# Altium footprint library 3D Components_v1.PcbLib: 30 footprints (part 2 of 2)
Each footprint in its own frame and in the unit in brackets; x right, y up, seen from the top. Pads: shape width x height; smd on the part's side, far side on the other; paste and mask are expansions set on the pad; w line width, h text height; cw(c..) or ccw(c..) is an arc to the next point about the centre after c.
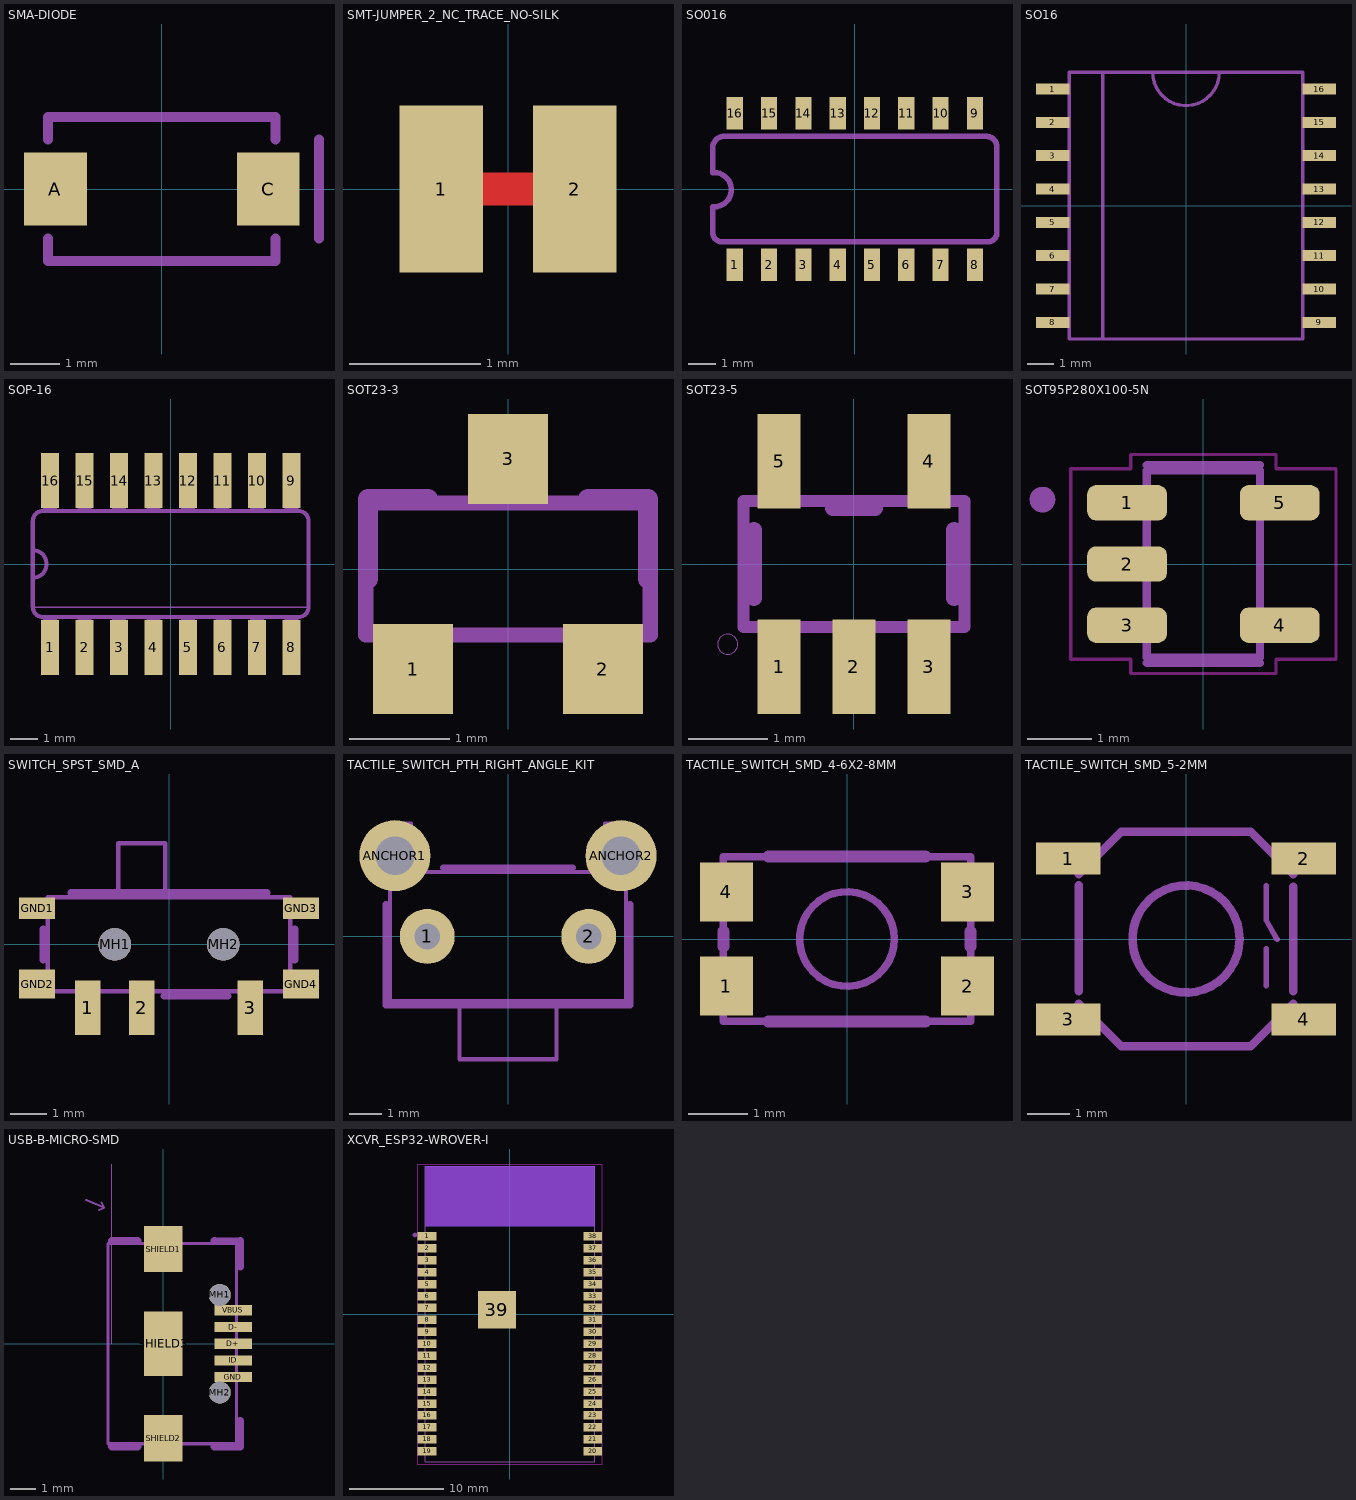
[diagram p1: the footprints below, top view; thin cyan lines are the x and y axes]

## SMA-DIODE [mm]
pads (2):
  rect 1.27x1.47 smd: A(-2.15,0) C(2.15,0)
Mechanical 7:
  lines w0.203: -2.3,-1 -2.3,-1.45 2.3,-1.45 2.3,-1 ; -2.3,1 -2.3,1.45 2.3,1.45 2.3,1 ; 3.175,-1 3.175,1

## SMT-JUMPER_2_NC_TRACE_NO-SILK [mil]
pads (2):
  rect 25x50 smd paste+0: 1(-20,0) 2(20,0)
Top Layer:
  lines w10: -20,0 20,0
Top Solder:
  region: -7.5,5 7.5,5 7.5,-5 -7.5,-5

## SO016 [mm]
pads (16):
  rect 0.6x1.2 smd: 1(-4.445,-2.8) 2(-3.175,-2.8) 3(-1.905,-2.8) 4(-0.635,-2.8) 5(0.635,-2.8) 6(1.905,-2.8) 7(3.175,-2.8) 8(4.445,-2.8) 9(4.445,2.8) 10(3.175,2.8) 11(1.905,2.8) 12(0.635,2.8) 13(-0.635,2.8) 14(-1.905,2.8) 15(-3.175,2.8) 16(-4.445,2.8)
Mechanical 3:
  region: -4.699,-3.302 -4.699,-2.273 -4.191,-2.273 -4.191,-3.302
  region: -3.429,-3.302 -3.429,-2.273 -2.921,-2.273 -2.921,-3.302
  region: -2.159,-3.302 -2.159,-2.273 -1.651,-2.273 -1.651,-3.302
  region: -0.889,-3.302 -0.889,-2.273 -0.381,-2.273 -0.381,-3.302
  region: 0.381,-3.302 0.381,-2.273 0.889,-2.273 0.889,-3.302
  region: 1.651,-3.302 1.651,-2.273 2.159,-2.273 2.159,-3.302
  region: 2.921,-3.302 2.921,-2.273 3.429,-2.273 3.429,-3.302
  region: 4.191,-3.302 4.191,-2.273 4.699,-2.273 4.699,-3.302
  region: -4.699,2.286 -4.699,3.365 -4.191,3.365 -4.191,2.286
  region: -3.429,2.286 -3.429,3.302 -2.921,3.302 -2.921,2.286
  region: -2.159,2.286 -2.159,3.302 -1.651,3.302 -1.651,2.286
  region: -0.889,2.286 -0.889,3.302 -0.381,3.302 -0.381,2.286
  region: 0.381,2.286 0.381,3.302 0.889,3.302 0.889,2.286
  region: 1.651,2.286 1.651,3.302 2.159,3.302 2.159,2.286
  region: 2.921,2.286 2.921,3.302 3.429,3.302 3.429,2.286
  region: 4.191,2.286 4.191,3.302 4.699,3.302 4.699,2.286
Mechanical 7:
  lines w0.203: -5.258,-0.66 -5.258,-1.665 ccw(c-4.927,-1.616) -4.877,-1.946 4.977,-1.946 ccw(c4.927,-1.615) 5.258,-1.565 5.258,1.565 ccw(c4.877,1.566) 4.877,1.946 -4.877,1.946 ccw(c-4.827,1.515) -5.258,1.465 ; -5.258,0.61 -5.258,1.453 ; -5.207,-0.66 ccw(c-5.207,-0.025) -5.207,0.61

## SO16 [mil] "PCF8574"
pads (16):
  rect 50x16.5 smd: 1(-200,175) 2(-200,125) 3(-200,75) 4(-200,25) 5(-200,-25) 6(-200,-75) 7(-200,-125) 8(-200,-175) 9(200,-175) 10(200,-125) 11(200,-75) 12(200,-25) 13(200,25) 14(200,75) 15(200,125) 16(200,175)
Mechanical 7:
  lines w5: -125,-200 175,-200 175,200 50,200 ; -125,-200 -175,-200 -175,200 -125,200 ; -125,-200 -125,200 ; -125,200 -50,200 ; -50,200 ccw(c0,200) 50,200 ; -50,200 50,200

## SOP-16 [mil] "PAM8403"
pads (16):
  rect 26x80 smd: 1(-175,-121) 2(-125,-121) 3(-75,-121) 4(-25,-121) 5(25,-121) 6(75,-121) 7(125,-121) 8(175,-121) 9(175,121) 10(125,121) 11(75,121) 12(25,121) 13(-25,121) 14(-75,121) 15(-125,121) 16(-175,121)
Mechanical 3:
  region: -35,77 -35,122 -15,122 -15,77
  region: -185,-122 -185,-77 -165,-77 -165,-122
  region: -135,-122 -135,-77 -115,-77 -115,-122
  region: -85,-121 -85,-76 -65,-76 -65,-121
  region: -35,-122 -35,-77 -15,-77 -15,-122
  region: -85,77 -85,122 -65,122 -65,77
  region: -135,77 -135,122 -115,122 -115,77
  region: -185,77 -185,122 -165,122 -165,77
  region: 15,-122 15,-77 35,-77 35,-122
  region: 65,-122 65,-77 85,-77 85,-122
  region: 115,-122 115,-77 135,-77 135,-122
  region: 165,-122 165,-77 185,-77 185,-122
  region: 15,77 15,122 35,122 35,77
  region: 65,77 65,122 85,122 85,77
  region: 115,77 115,122 135,122 135,77
  region: 165,77 165,122 185,122 185,77
Mechanical 7:
  lines w2: -200,-63 200,-63
  lines w6: -200,-20 ccw(c-200,0) -200,20 ; -200,-20 -200,20 ; -200,-20 -200,-62 ccw(c-185,-62) -185,-77 185,-77 ccw(c185,-62) 200,-62 200,62 ccw(c185,62) 185,77 -185,77 ccw(c-185,62) -200,62 -200,20

## SOT23-3 [mil]
pads (3):
  rect 31.5x35.43 smd: 1(-37.4,-39.37) 2(37.4,-39.37) 3(0,43.31)
Mechanical 3:
  lines w6: -56,-26 -56,26 56,26 56,-26 -56,-26
Mechanical 7:
  lines w8: -55.12,-3.94 -55.12,27.56 -31.5,27.56 ; 31.5,27.56 55.12,27.56 55.12,-3.94

## SOT23-5 [mm]
pads (5):
  rect 0.55x1.2 smd: 1(-0.95,-1.3) 2(0,-1.3) 3(0.95,-1.3) 4(0.95,1.3) 5(-0.95,1.3)
Mechanical 3:
  region: -1.2,-1.5 -1.2,-0.85 -0.7,-0.85 -0.7,-1.5
  region: -0.25,-1.5 -0.25,-0.85 0.25,-0.85 0.25,-1.5
  region: 0.7,-1.5 0.7,-0.85 1.2,-0.85 1.2,-1.5
  region: 0.7,0.85 0.7,1.5 1.2,1.5 1.2,0.85
  region: -1.2,0.85 -1.2,1.5 -0.7,1.5 -0.7,0.85
  lines w0.152: -1.4,-0.8 1.4,-0.8 1.4,0.8 -1.4,0.8 -1.4,-0.8
Mechanical 7:
  circle w0: c-1.6,-1.016 r0.127
  lines w0.203: -1.27,-0.43 -1.27,0.43 ; -0.268,0.709 0.268,0.709 ; 1.27,-0.43 1.27,0.43

## SOT95P280X100-5N [mm]
pads (5):
  rrect50% 1.24x0.55 smd: 1(-1.185,0.95) 2(-1.185,0) 3(-1.185,-0.95) 4(1.185,-0.95) 5(1.185,0.95)
Top Layer keep-out:
  lines w0.05: -2.06,-1.48 -2.06,1.48 -1.13,1.48 -1.13,1.7 1.13,1.7 1.13,1.48 2.06,1.48 2.06,-1.48 1.13,-1.48 1.13,-1.7 -1.13,-1.7 -1.13,-1.48 -2.06,-1.48
Mechanical 3:
  circle w0.2: c-2.5,1 r0.1
  lines w0.127: -0.88,-1.45 -0.88,1.45 0.88,1.45 0.88,-1.45 -0.88,-1.45
Mechanical 7:
  circle w0.2: c-2.5,1 r0.1
  lines w0.127: -0.88,-1.539 0.88,-1.539 ; -0.88,1.539 0.88,1.539

## SWITCH_SPST_SMD_A [mm]
pads (9):
  rect 0.7x1.5 smd: 1(-2.25,-1.75) 2(-0.75,-1.75) 3(2.25,-1.75)
  rect 1x0.6 smd: GND1(-3.65,1) GND3(3.65,1)
  rect 1x0.8 smd: GND2(-3.65,-1.1) GND4(3.65,-1.1)
  round 0.9 hole 0.9 unplated: MH1(-1.5,0) MH2(1.5,0)
Mechanical 3:
  lines w0.127: -1.4,1.3 -1.4,2.8 -0.1,2.8 -0.1,1.3 ; -1.4,1.3 -3.35,1.3 -3.35,-1.3 3.35,-1.3 3.35,1.3 -0.1,1.3 ; -1.4,1.3 -0.1,1.3
Mechanical 7:
  lines w0.203: -3.477,-0.427 -3.477,0.427 ; -2.7,1.427 2.7,1.427 ; -0.127,-1.427 1.627,-1.427 ; 3.477,-0.427 3.477,0.427

## TACTILE_SWITCH_PTH_RIGHT_ANGLE_KIT [mil]
pads (4):
  round 66.93 hole 31.5: 1(-98.43,0) 2(98.43,0)
  round 86.61 hole 47.24: ANCHOR1(-137.8,98.43) ANCHOR2(137.8,98.43)
Top Solder:
  circle w0: c98.43,0 r17.5
  circle w0: c-98.43,0 r17.5
  circle w0: c-137.8,98.43 r25
  circle w0: c137.8,98.43 r25
Bottom Solder:
  circle w0: c-137.8,98.43 r45
  circle w0: c98.43,0 r35
  circle w0: c-98.43,0 r35
  circle w0: c137.8,98.43 r45
Mechanical 3:
  lines w5: -59.06,-78.74 -143.7,-78.74 -143.7,137.8 -118.11,137.8 -118.11,78.74 118.11,78.74 118.11,137.8 143.7,137.8 143.7,-78.74 59.06,-78.74 ; -59.06,-78.74 59.06,-78.74 ; -59.06,-78.74 -59.06,-149.61 59.06,-149.61 59.06,-78.74
Mechanical 7:
  lines w8: -148.7,39.37 -148.7,-83.74 148.7,-83.74 148.7,39.37 ; -78.74,83.74 78.74,83.74

## TACTILE_SWITCH_SMD_4-6X2-8MM [mm]
pads (4):
  rect 0.9x1 smd: 1(-2.05,-0.8) 2(2.05,-0.8) 3(2.05,0.8) 4(-2.05,0.8)
Mechanical 3:
  region: 2.3,1.1 2.3,0.5 2.1,0.5 2.1,1.1
  region: 2.3,-0.5 2.3,-1.1 2.1,-1.1 2.1,-0.5
  region: -2.3,-1.1 -2.3,-0.5 -2.1,-0.5 -2.1,-1.1
  region: -2.3,0.5 -2.3,1.1 -2.1,1.1 -2.1,0.5
  lines w0.127: -2.1,-1.4 2.1,-1.4 2.1,1.4 -2.1,1.4 -2.1,-1.4
Mechanical 7:
  circle w0.127: c0,0 r0.805
  lines w0.203: -2.1,-0.13 -2.1,0.13 ; -1.338,-1.4 1.338,-1.4 ; -1.338,1.4 1.338,1.4 ; 2.1,-0.13 2.1,0.13

## TACTILE_SWITCH_SMD_5-2MM [mil]
pads (4):
  rect 60x30 smd: 1(-110,75) 2(110,75) 3(-110,-75) 4(110,-75)
Mechanical 3:
  lines w5: 75,-43.9 75,-9.06 ; 75,50 75,17.52 85.04,-0.39
  lines w8: -100,-60.63 -60.63,-100 ; -100,60.63 -60.63,100 ; 60.63,-100 100,-60.63 ; 60.63,100 100,60.63
Mechanical 7:
  circle w8: c0,0 r50
  lines w8: -100,-48.82 -100,50 ; -60.63,-100 60.63,-100 ; -60.63,100 60.63,100 ; 100,-48.82 100,48.82

## USB-B-MICRO-SMD [mm]
pads (10):
  rect 1.45x0.4 smd: D+(2.725,0) D-(2.725,0.65) GND(2.725,-1.3) ID(2.725,-0.65) VBUS(2.725,1.3)
  round 0.85 hole 0.85 unplated: MH1(2.2,1.9) MH2(2.2,-1.9)
  rect 1.5x1.8 smd paste+0 mask+0: SHIELD1(0,3.685) SHIELD2(0,-3.685)
  rect 1.5x2.5 smd paste+0 mask+0: SHIELD3(0,0)
Top Paste:
  region: -0.75,2.784 -0.75,4.584 0.75,4.584 0.75,2.784
  region: -0.35,-0.75 -0.35,0.75 0.35,0.75 0.35,-0.75
  region: -0.75,-4.584 -0.75,-2.784 0.75,-2.784 0.75,-4.584
Top Solder:
  region: -0.85,2.684 -0.85,4.684 0.85,4.684 0.85,2.684
  region: -0.85,-4.684 -0.85,-2.684 0.85,-2.684 0.85,-4.684
  region: -0.85,-1.35 -0.85,1.35 0.85,1.35 0.85,-1.35
Mechanical 3:
  lines w0: -2,0 -2,7
  lines w0.08: -3,5.6 -2.3,5.3 ; -2.5,5.2 -2.3,5.3 ; -2.4,5.5 -2.3,5.3
  text "PCB Front" at -4.66,5.96 h0.47
Mechanical 7:
  lines w0.305: -2,-4 -1,-4 ; -2,4 -1,4 ; 2,-4 3,-4 3,-3 ; 2,4 2,3.993 2.982,3.993 ; 3,3 3,4
Mechanical 20:
  lines w0.127: -2.15,-3.9 -2.15,3.9 2.85,3.9 2.85,-3.9 -2.15,-3.9

## XCVR_ESP32-WROVER-I [mm]
pads (39):
  rect 2x0.9 smd: 1(-8.81,8.26) 2(-8.81,6.99) 3(-8.81,5.72) 4(-8.81,4.45) 5(-8.81,3.18) 6(-8.81,1.91) 7(-8.81,0.64) 8(-8.81,-0.63) 9(-8.81,-1.9) 10(-8.81,-3.17) 11(-8.81,-4.44) 12(-8.81,-5.71) 13(-8.81,-6.98) 14(-8.81,-8.25) 15(-8.81,-9.52) 16(-8.81,-10.79) 17(-8.81,-12.06) 18(-8.81,-13.33) 19(-8.81,-14.6) 20(8.81,-14.6) 21(8.81,-13.33) 22(8.81,-12.06) 23(8.81,-10.79) 24(8.81,-9.52) 25(8.81,-8.25) 26(8.81,-6.98) 27(8.81,-5.71) 28(8.81,-4.44) 29(8.81,-3.17) 30(8.81,-1.9) 31(8.81,-0.63) 32(8.81,0.64) 33(8.81,1.91) 34(8.81,3.18) 35(8.81,4.45) 36(8.81,5.72) 37(8.81,6.99) 38(8.81,8.26)
  rect 4x4 smd paste+0: 39(-1.38,0.47)
Top Layer keep-out:
  region: -9.023,9.324 -9.023,15.7 9,15.7 9,9.324
  region: -9.03,9.331 -9.03,15.7 9,15.7 9,9.331
  lines w0.05: -9.8,-15.95 9.8,-15.95 9.8,15.95 -9.8,15.95 -9.8,-15.95
Bottom Layer keep-out:
  region: -9.029,9.33 -9.029,15.7 9,15.7 9,9.33
Top Paste:
  region: -2.648,-0.796 -2.648,1.735 -0.115,1.735 -0.115,-0.796
Mechanical 3:
  lines w0.127: -9,-15.7 9,-15.7 9,15.7 -9,15.7 -9,-15.7
Mechanical 7:
  circle w0.24: c-10.1,8.4 r0.12
  lines w0.127: -9,-15.55 -9,-15.7 9,-15.7 9,-15.5 ; -9,8.95 -9,15.7 9,15.7 9,8.95